# EAGLE library part SWITCH-DP3T (library Harrington-Switches v7)
DP3T Switch E-Switch
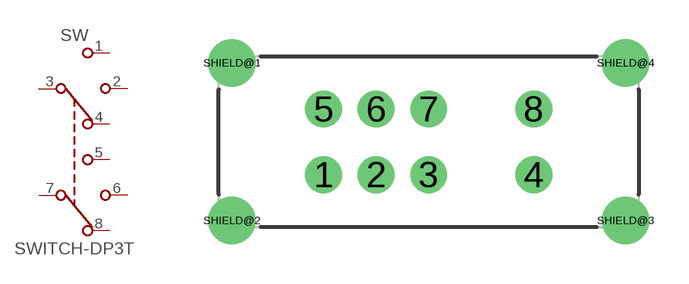
[diagram p1: symbol with the pads of EG2301; footprint EG2301]

Designator prefix SW

## SWITCH-DP3T  [EG2301]
1  1
2  2
3  3
4  4
5  5
6  6
7  7
8  8

## Footprint EG2301 (pad centres in mm)
drill 0.9: 1 -4,-1.25; 2 -2,-1.25; 3 0,-1.25; 4 4,-1.25; 5 -4,1.25; 6 -2,1.25; 7 0,1.25; 8 4,1.25
drill 1.2: SHIELD@1 -7.5,3; SHIELD@2 -7.5,-3; SHIELD@3 7.5,-3; SHIELD@4 7.5,3